# EAGLE library part SP7120 (library awqua_eagle_library)
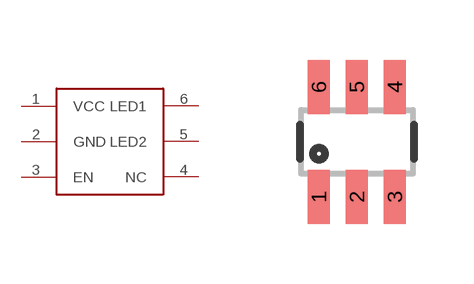
[diagram p5: symbol with the pads of SP7120; footprint SP7120]

Designator prefix -

## SP7120  [SP7120]
1  VCC
2  GND
3  EN
4  NC
5  LED2
6  LED1

## Footprint SP7120 (pad centres in mm)
smd 0.55 x 1.35: 1 -0.95,-1.375; 2 0,-1.375; 3 0.95,-1.375; 4 0.95,1.375; 5 0,1.375; 6 -0.95,1.375